# Altium footprint library QUTMS_MicrofitLibrary.PcbLib: 64 footprints (part 2 of 4)
Each footprint in its own frame and in the unit in brackets; x right, y up, seen from the top. Pads: shape width x height; smd on the part's side, far side on the other; paste and mask are expansions set on the pad; w line width, h text height; cw(c..) or ccw(c..) is an arc to the next point about the centre after c.
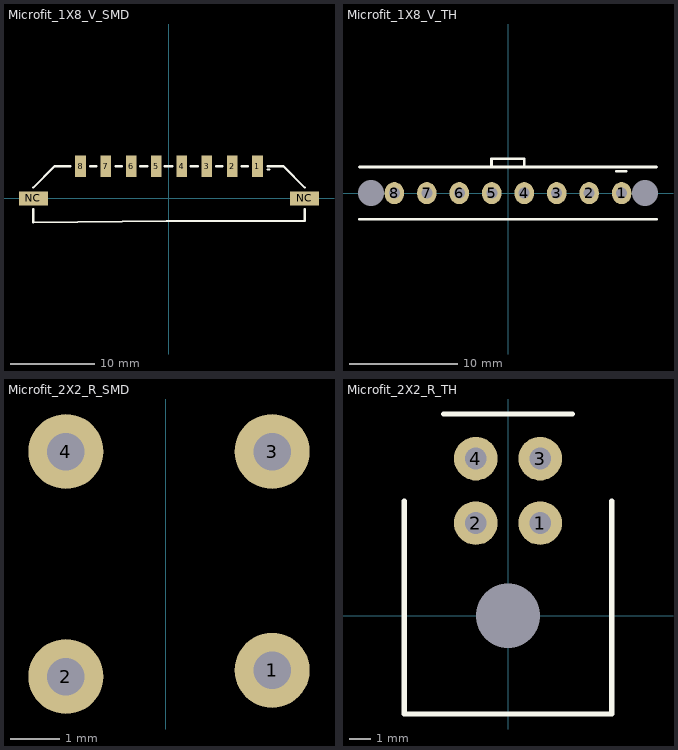
[diagram p1: the footprints below, top view; thin cyan lines are the x and y axes]

## Microfit_1X6_R_SMD [mil]

## Microfit_1X6_R_TH [mil]

## Microfit_1X6_V_SMD [mil]

## Microfit_1X6_V_TH [mil]

## Microfit_1X8_R_SMD [mil]

## Microfit_1X8_R_TH [mil]

## Microfit_1X8_V_SMD [mm] "436500825"
pads (10):
  rect 1.27x2.54 smd: 1(10.5,3.81) 2(7.5,3.81) 3(4.5,3.81) 4(1.5,3.81) 5(-1.5,3.81) 6(-4.5,3.81) 7(-7.5,3.81) 8(-10.5,3.81)
  rect 3.429x1.651 smd: NC(-16.1,0) NC(16.1,0)
Top Overlay:
  lines w0.254: -16.129,-1.27 -16.129,-2.854 -0.261,-2.68 16.129,-2.68 16.129,-1.27 ; -16.129,1.27 -13.589,3.81 -11.684,3.81 ; -9.398,3.81 -8.636,3.81 ; -6.35,3.81 -5.588,3.81 ; -3.429,3.81 -2.54,3.81 ; -0.508,3.81 0.381,3.81 ; 2.54,3.81 3.429,3.81 ; 5.588,3.81 6.35,3.81 ; 8.636,3.81 9.398,3.81 ; 11.683,3.431 11.937,3.431 ; 11.684,3.81 13.589,3.81 16.129,1.27
3D body "436500825.stp": height 10.03, standoff 0.1, extent -15.82,-2.47 15.82,4.1

## Microfit_1X8_V_TH [mil]
pads (10):
  oval 70x80 hole 40: 1(413.39,0) 2(295.28,0) 3(177.17,0) 4(59.06,0) 5(-59.06,0) 6(-177.17,0) 7(-295.28,0) 8(-413.39,0)
  round 0 hole 95 unplated: NC(-498.03,0) NC(498.03,0)
Top Overlay:
  lines w10: -540,-95 540,-95 ; -540,95 540,95 ; -60,95 -60,125 59.06,125 59.06,95 ; 395,80 430,80
3D body "436500819.stp": height 394.88, standoff -120.08, extent -544.09,-97.24 544.11,123.43

## Microfit_1X10_R_SMD [mil]

## Microfit_1X10_R_TH [mil]

## Microfit_1X10_V_SMD [mil]

## Microfit_1X10_V_TH [mil]

## Microfit_2X2_R_SMD [mil]
pads (4):
  round 60 hole 30: 1(85,75) 2(-80,70) 3(85,250) 4(-80,250)

## Microfit_2X2_R_TH [mil]
pads (5):
  round 80 hole 40: 1(59.06,170) 2(-59.06,170) 3(59.06,288.19) 4(-59.06,288.19)
  round 0 hole 118.11 mask+10: NC(0,0)
Top Overlay:
  lines w10: -190,210 -190,-180 190,-180 190,210 ; -118.11,370 118.11,370
3D body "430450400.stp": height 350.16, standoff -120.31, extent -199.8,-180.07 199.81,301.81

## Microfit_2X2_V_SMD [mil]

## Microfit_2X2_V_TH [mil]